# Altium integrated library TI_Logic_Flip-Flop,Latch,Register.IntLib: 2598 symbols (part 72 of 122)
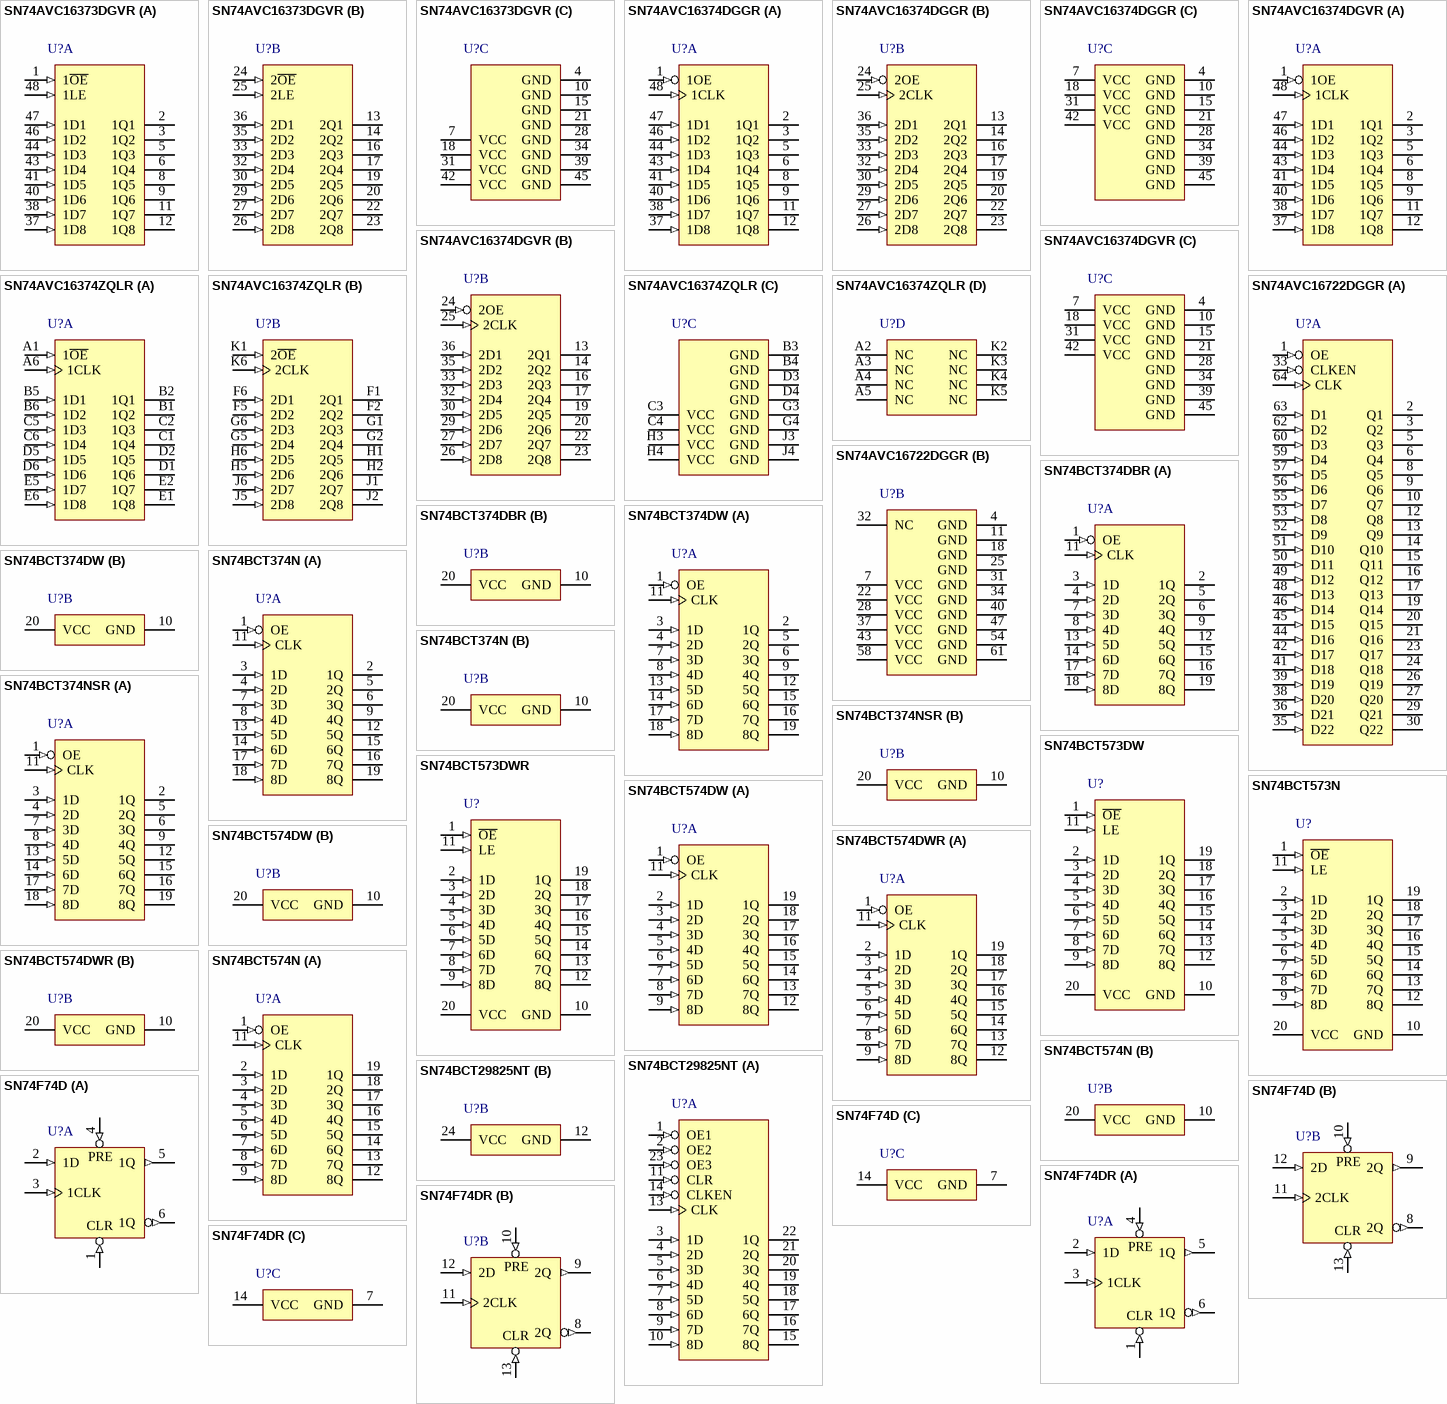
[diagram p210: symbols SN74AVC16373DGVR to SN74F74DR]

## SN74AVC16373DGVR
designator U?
16-Bit Transparent D-Type Latch With 3-State Outputs, DGV0048A, LARGE T&R; Generic Part Number: SN74AVC16373; Manufacturer: Texas Instruments; PartNumber: SN74AVC16373DGVR; VCC(Min)(V): 1.4; VCC(Max)(V): 3.6; Output Type: CMOS; Logic: True; Static Current: 0.04; Input Type: CMOS,TTL; Bits(#): 16; F @ Nom Voltage(Max)(Mhz): 200; Rating: Catalog; Technology Family: AVC; Voltage(Nom)(V): 1.2,1.5,1.8,2.5,3.3; Schmitt Trigger: No; Output Drive (IOL/IOH)(Max)(mA): 12/-12; Output Logic: Non-inverted; 3-State Output: Yes; tpd @ Nom Voltage(Max)(ns): 5.8,6.8,5.7,3.3,2.8; DatasheetVersion: SCES156H; PackageReference: DGV0048A; Supplier 1: Digi-Key; Supplier Part Number 1: 296-9792-2-ND; Supplier 2: Digi-Key; Supplier Part Number 2: 296-9792-1-ND; Supplier 3: Digi-Key; Supplier Part Number 3: 296-9792-6-ND; Supplier 4: Mouser; Supplier Part Number 4: 595-SN74AVC16373DGVR; ICC @ Nom Voltage(Max)(mA): 0.04; Operating Temperature Range(C): -40 to 85; Code_JEDEC: MO-153; ComponentLink1Description: Manufacturer URL; ComponentLink1URL: http://www.ti.com/; ComponentLink2Description: Datasheet; ComponentLink2URL: http://www.ti.com/lit/ds/symlink/sn74avc16373.pdf; ComponentLink3Description: Package Specification; ComponentLink3URL: http://www.ti.com/lit/ml/mpds006c/mpds006c.pdf
footprint DGV0048A_N (SOP, 48-Leads, Body 4.5x9.8mm, Pitch 0.4mm, IPC Medium Density)
footprint DGV0048A_M (SOP, 48-Leads, Body 4.5x9.8mm, Pitch 0.4mm, IPC Low Density)
footprint DGV0048A_L (SOP, 48-Leads, Body 4.5x9.8mm, Pitch 0.4mm, IPC High Density)
part A pins: 1 1~{OE} (in) "Output Enable 1", 2 1Q1 (hiz) "1Q1 Output", 3 1Q2 (hiz) "1Q2 Output", 5 1Q3 (hiz) "1Q3 Output", 6 1Q4 (hiz) "1Q4 Output", 8 1Q5 (hiz) "1Q5 Output", 9 1Q6 (hiz) "1Q6 Output", 11 1Q7 (hiz) "1Q7 Output", 12 1Q8 (hiz) "1Q8 Output", 37 1D8 (in) "1D8 Input", 38 1D7 (in) "1D7 Input", 40 1D6 (in) "1D6 Input", 41 1D5 (in) "1D5 Input", 43 1D4 (in) "1D4 Input", 44 1D3 (in) "1D3 Input", 46 1D2 (in) "1D2 Input", 47 1D1 (in) "1D1 Input", 48 1LE (in) "Latch Enable 1"
part B pins: 13 2Q1 (hiz) "2Q1 Output", 14 2Q2 (hiz) "2Q2 Output", 16 2Q3 (hiz) "2Q3 Output", 17 2Q4 (hiz) "2Q4 Output", 19 2Q5 (hiz) "Output", 20 2Q6 (hiz) "2Q6 Output", 22 2Q7 (hiz) "2Q7 Output", 23 2Q8 (hiz) "2Q8 Output", 24 2~{OE} (in) "Output Enable 2", 25 2LE (in) "2LE Input", 26 2D8 (in) "2D8 Input", 27 2D7 (in) "2D7 Input", 29 2D6 (in) "2D6 Input", 30 2D5 (in) "2D5 Input", 32 2D4 (in) "2D4 Input", 33 2D3 (in) "2D3 Input", 35 2D2 (in) "2D2 Input", 36 2D1 (in) "2D1 Input"
part C pins: 4 GND (power) "Ground Pin", 7 VCC (power) "Power Pin", 10 GND (power) "Ground Pin", 15 GND (power) "Ground Pin", 18 VCC (power) "Power Pin", 21 GND (power) "Ground Pin", 28 GND (power) "Ground Pin", 31 VCC (power) "Power Pin", 34 GND (power) "Ground Pin", 39 GND (power) "Ground Pin", 42 VCC (power) "Power Pin", 45 GND (power) "Ground Pin"

## SN74AVC16374DGGR
designator U?
16-Bit Edge-Triggered D-Type Flip-Flop With 3-State Outputs, DGG0048A, LARGE T&R; Generic Part Number: SN74AVC16374; Manufacturer: Texas Instruments; PartNumber: SN74AVC16374DGGR; VCC(Min)(V): 1.2; VCC(Max)(V): 3.6; Output Type: CMOS; ICC @ Nom Voltage(Max)(mA): 0.04; Input Type: TTL,CMOS; Bits(#): 16; F @ Nom Voltage(Max)(Mhz): 200; Rating: Catalog; Technology Family: AVC; Voltage(Nom)(V): 1.2,1.5,1.8,2.5,3.3; Schmitt Trigger: No; Output Drive (IOL/IOH)(Max)(mA): 12/-12; Output Logic: Non-inverted; 3-State Output: Yes; tpd @ Nom Voltage(Max)(ns): 7.3,8.4,6.7,4.1,3.3; DatasheetVersion: SCES158H; PackageReference: DGG0048A; Supplier 1: Digi-Key; Supplier Part Number 1: 296-9794-2-ND; Supplier 2: Digi-Key; Supplier Part Number 2: 296-9794-1-ND; Supplier 3: Digi-Key; Supplier Part Number 3: 296-9794-6-ND; Supplier 4: Newark; Supplier Part Number 4: 76C2766; Supplier 5: Mouser; Supplier Part Number 5: 595-SN74AVC16374DGGR; Operating Temperature Range(C): -40 to 85; Code_JEDEC: MO-153; ComponentLink1Description: Manufacturer URL; ComponentLink1URL: http://www.ti.com/; ComponentLink2Description: Datasheet; ComponentLink2URL: http://www.ti.com/lit/ds/symlink/sn74avc16374.pdf; ComponentLink3Description: Package Specification; ComponentLink3URL: http://www.ti.com/lit/ml/mtss003d/mtss003d.pdf
footprint DGG0048A_N (TSSOP, 48-Leads, Body 12.6x6.2mm, Pitch 0.5mm, IPC Medium Density)
footprint DGG0048A_M (TSSOP, 48-Leads, Body 12.6x6.2mm, Pitch 0.5mm, IPC Low Density)
footprint DGG0048A_L (TSSOP, 48-Leads, Body 12.6x6.2mm, Pitch 0.5mm, IPC High Density)
part A pins: 1 1OE (in), 2 1Q1 (hiz), 3 1Q2 (hiz), 5 1Q3 (hiz), 6 1Q4 (hiz), 8 1Q5 (hiz), 9 1Q6 (hiz), 11 1Q7 (hiz), 12 1Q8 (hiz), 37 1D8 (in), 38 1D7 (in), 40 1D6 (in), 41 1D5 (in), 43 1D4 (in), 44 1D3 (in), 46 1D2 (in), 47 1D1 (in), 48 1CLK (in)
part B pins: 13 2Q1 (hiz), 14 2Q2 (hiz), 16 2Q3 (hiz), 17 2Q4 (hiz), 19 2Q5 (hiz), 20 2Q6 (hiz), 22 2Q7 (hiz), 23 2Q8 (hiz), 24 2OE (in), 25 2CLK (in), 26 2D8 (in), 27 2D7 (in), 29 2D6 (in), 30 2D5 (in), 32 2D4 (in), 33 2D3 (in), 35 2D2 (in), 36 2D1 (in)
part C pins: 4 GND (power), 7 VCC (power), 10 GND (power), 15 GND (power), 18 VCC (power), 21 GND (power), 28 GND (power), 31 VCC (power), 34 GND (power), 39 GND (power), 42 VCC (power), 45 GND (power)

## SN74AVC16374DGVR
designator U?
16-Bit Edge-Triggered D-Type Flip-Flop With 3-State Outputs, DGV0048A, LARGE T&R; Generic Part Number: SN74AVC16374; Manufacturer: Texas Instruments; PartNumber: SN74AVC16374DGVR; VCC(Min)(V): 1.2; VCC(Max)(V): 3.6; Output Type: CMOS; ICC @ Nom Voltage(Max)(mA): 0.04; Input Type: TTL,CMOS; Bits(#): 16; F @ Nom Voltage(Max)(Mhz): 200; Rating: Catalog; Technology Family: AVC; Voltage(Nom)(V): 1.2,1.5,1.8,2.5,3.3; Schmitt Trigger: No; Output Drive (IOL/IOH)(Max)(mA): 12/-12; Output Logic: Non-inverted; 3-State Output: Yes; tpd @ Nom Voltage(Max)(ns): 7.3,8.4,6.7,4.1,3.3; DatasheetVersion: SCES158H; PackageReference: DGV0048A; Supplier 1: Digi-Key; Supplier Part Number 1: 296-9795-2-ND; Supplier 2: Digi-Key; Supplier Part Number 2: 296-9795-1-ND; Supplier 3: Digi-Key; Supplier Part Number 3: 296-9795-6-ND; Supplier 4: Newark; Supplier Part Number 4: 76C2767; Supplier 5: Mouser; Supplier Part Number 5: 595-SN74AVC16374DGVR; Operating Temperature Range(C): -40 to 85; Code_JEDEC: MO-153; ComponentLink1Description: Manufacturer URL; ComponentLink1URL: http://www.ti.com/; ComponentLink2Description: Datasheet; ComponentLink2URL: http://www.ti.com/lit/ds/symlink/sn74avc16374.pdf; ComponentLink3Description: Package Specification; ComponentLink3URL: http://www.ti.com/lit/ml/mpds006c/mpds006c.pdf
footprint DGV0048A_N (SOP, 48-Leads, Body 4.5x9.8mm, Pitch 0.4mm, IPC Medium Density)
footprint DGV0048A_M (SOP, 48-Leads, Body 4.5x9.8mm, Pitch 0.4mm, IPC Low Density)
footprint DGV0048A_L (SOP, 48-Leads, Body 4.5x9.8mm, Pitch 0.4mm, IPC High Density)
part A pins: 1 1OE (in), 2 1Q1 (hiz), 3 1Q2 (hiz), 5 1Q3 (hiz), 6 1Q4 (hiz), 8 1Q5 (hiz), 9 1Q6 (hiz), 11 1Q7 (hiz), 12 1Q8 (hiz), 37 1D8 (in), 38 1D7 (in), 40 1D6 (in), 41 1D5 (in), 43 1D4 (in), 44 1D3 (in), 46 1D2 (in), 47 1D1 (in), 48 1CLK (in)
part B pins: 13 2Q1 (hiz), 14 2Q2 (hiz), 16 2Q3 (hiz), 17 2Q4 (hiz), 19 2Q5 (hiz), 20 2Q6 (hiz), 22 2Q7 (hiz), 23 2Q8 (hiz), 24 2OE (in), 25 2CLK (in), 26 2D8 (in), 27 2D7 (in), 29 2D6 (in), 30 2D5 (in), 32 2D4 (in), 33 2D3 (in), 35 2D2 (in), 36 2D1 (in)
part C pins: 4 GND (power), 7 VCC (power), 10 GND (power), 15 GND (power), 18 VCC (power), 21 GND (power), 28 GND (power), 31 VCC (power), 34 GND (power), 39 GND (power), 42 VCC (power), 45 GND (power)

## SN74AVC16374ZQLR
designator U?
16-Bit Edge-Triggered D-Type Flip-Flop With 3-State Outputs, ZQL0056A, LARGE T&R; Generic Part Number: SN74AVC16374; Manufacturer: Texas Instruments; PartNumber: SN74AVC16374ZQLR; VCC(Min)(V): 1.2; VCC(Max)(V): 3.6; Output Type: CMOS; ICC @ Nom Voltage(Max)(mA): 0.04; Input Type: TTL,CMOS; Bits(#): 16; F @ Nom Voltage(Max)(Mhz): 200; Rating: Catalog; Technology Family: AVC; Voltage(Nom)(V): 1.2,1.5,1.8,2.5,3.3; Schmitt Trigger: No; Output Drive (IOL/IOH)(Max)(mA): 12/-12; Output Logic: Non-inverted; 3-State Output: Yes; tpd @ Nom Voltage(Max)(ns): 7.3,8.4,6.7,4.1,3.3; DatasheetVersion: SCES158H; PackageReference: ZQL0056A; Supplier 1: Digi-Key; Supplier Part Number 1: 296-23246-2-ND; Supplier 2: Digi-Key; Supplier Part Number 2: 296-23246-1-ND; Supplier 3: Digi-Key; Supplier Part Number 3: 296-23246-6-ND; Supplier 4: Mouser; Supplier Part Number 4: 595-SN74AVC16374ZQLR; Operating Temperature Range(C): -40 to 85; Code_JEDEC: MO-285; ComponentLink1Description: Manufacturer URL; ComponentLink1URL: http://www.ti.com/; ComponentLink2Description: Datasheet; ComponentLink2URL: http://www.ti.com/lit/ds/symlink/sn74avc16374.pdf; ComponentLink3Description: Package Specification; ComponentLink3URL: http://www.ti.com/lit/ml/mpbg302g/mpbg302g.pdf
footprint ZQL0056A (BGA, 56-Balls, Body 7x4.5mm, Pitch 0.65mm)
part A pins: A1 1~{OE} (in), A6 1CLK (in), B1 1Q2 (hiz), B2 1Q1 (hiz), B5 1D1 (in), B6 1D2 (in), C1 1Q4 (hiz), C2 1Q3 (hiz), C5 1D3 (in), C6 1D4 (in), D1 1Q6 (hiz), D2 1Q5 (hiz), D5 1D5 (in), D6 1D6 (in), E1 1Q8 (hiz), E2 1Q7 (hiz), E5 1D7 (in), E6 1D8 (in)
part B pins: F1 2Q1 (hiz), F2 2Q2 (hiz), F5 2D2 (in), F6 2D1 (in), G1 2Q3 (hiz), G2 2Q4 (hiz), G5 2D4 (in), G6 2D3 (in), H1 2Q5 (hiz), H2 2Q6 (hiz), H5 2D6 (in), H6 2D5 (in), J1 2Q7 (hiz), J2 2Q8 (hiz), J5 2D8 (in), J6 2D7 (in), K1 2~{OE} (in), K6 2CLK (in)
part C pins: B3 GND (power), B4 GND (power), C3 VCC (power), C4 VCC (power), D3 GND (power), D4 GND (power), G3 GND (power), G4 GND (power), H3 VCC (power), H4 VCC (power), J3 GND (power), J4 GND (power)
part D pins: A2 NC, A3 NC, A4 NC, A5 NC, K2 NC, K3 NC, K4 NC, K5 NC

## SN74AVC16722DGGR
designator U?
22-Bit Flip-Flop With 3-State Outputs, DGG0064A, LARGE T&R; Generic Part Number: SN74AVC16722; Manufacturer: Texas Instruments; PartNumber: SN74AVC16722DGGR; VCC(Min)(V): 1.2; VCC(Max)(V): 3.6; Output Type: CMOS; ICC @ Nom Voltage(Max)(mA): 0.04; Input Type: TTL,CMOS; Bits(#): 22; F @ Nom Voltage(Max)(Mhz): 200; Rating: Catalog; Technology Family: AVC; Voltage(Nom)(V): 1.2,1.5,1.8,2.5,3.3; Schmitt Trigger: No; Output Drive (IOL/IOH)(Max)(mA): 12/-12; Output Logic: Non-inverted; 3-State Output: Yes; tpd @ Nom Voltage(Max)(ns): 7.7,6.3,5.4,3.3,2.6; DatasheetVersion: SCES166H; PackageReference: DGG0064A; Supplier 1: Digi-Key; Supplier Part Number 1: 296-9799-2-ND; Supplier 2: Digi-Key; Supplier Part Number 2: 296-9799-1-ND; Supplier 3: Digi-Key; Supplier Part Number 3: 296-9799-6-ND; Supplier 4: Mouser; Supplier Part Number 4: 595-SN74AVC16722DGGR; Operating Temperature Range(C): -40 to 85; Code_JEDEC: MO-153; ComponentLink1Description: Manufacturer URL; ComponentLink1URL: http://www.ti.com/; ComponentLink2Description: Datasheet; ComponentLink2URL: http://www.ti.com/lit/ds/symlink/sn74avc16722.pdf; ComponentLink3Description: Package Specification; ComponentLink3URL: http://www.ti.com/lit/ml/mtss003d/mtss003d.pdf
footprint DGG0064A_N (TSSOP, 64-Leads, Body 17.1x6.2mm, Pitch 0.5mm, IPC Medium Density)
footprint DGG0064A_M (TSSOP, 64-Leads, Body 17.1x6.2mm, Pitch 0.5mm, IPC Low Density)
footprint DGG0064A_L (TSSOP, 64-Leads, Body 17.1x6.2mm, Pitch 0.5mm, IPC High Density)
part A pins: 1 OE (in), 2 Q1 (hiz), 3 Q2 (hiz), 5 Q3 (hiz), 6 Q4 (hiz), 8 Q5 (hiz), 9 Q6 (hiz), 10 Q7 (hiz), 12 Q8 (hiz), 13 Q9 (hiz), 14 Q10 (hiz), 15 Q11 (hiz), 16 Q12 (hiz), 17 Q13 (hiz), 19 Q14 (hiz), 20 Q15 (hiz), 21 Q16 (hiz), 23 Q17 (hiz), 24 Q18 (hiz), 26 Q19 (hiz), 27 Q20 (hiz), 29 Q21 (hiz), 30 Q22 (hiz), 33 CLKEN (in), 35 D22 (in), 36 D21 (in), 38 D20 (in), 39 D19 (in), 41 D18 (in), 42 D17 (in), 44 D16 (in), 45 D15 (in), 46 D14 (in), 48 D13 (in), 49 D12 (in), 50 D11 (in), 51 D10 (in), 52 D9 (in), 53 D8 (in), 55 D7 (in), 56 D6 (in), 57 D5 (in), 59 D4 (in), 60 D3 (in), 62 D2 (in), 63 D1 (in), 64 CLK (in)
part B pins: 4 GND (power), 7 VCC (power), 11 GND (power), 18 GND (power), 22 VCC (power), 25 GND (power), 28 VCC (power), 31 GND (power), 32 NC, 34 GND (power), 37 VCC (power), 40 GND (power), 43 VCC (power), 47 GND (power), 54 GND (power), 58 VCC (power), 61 GND (power)

## SN74BCT374DBR
designator U?
Octal D-Type Edge-Triggered Flip-Flops, DB0020A, LARGE T&R; Generic Part Number: SN74BCT374; Manufacturer: Texas Instruments; PartNumber: SN74BCT374DBR; VCC(Min)(V): 4.5; VCC(Max)(V): 5.5; Output Type: TTL; ICC @ Nom Voltage(Max)(mA): 60; Bits(#): 8; F @ Nom Voltage(Max)(Mhz): 70; Rating: Catalog; Technology Family: BCT; Voltage(Nom)(V): 5; Schmitt Trigger: No; Output Drive (IOL/IOH)(Max)(mA): 64/-15; Output Logic: Non-inverted; 3-State Output: Yes; tpd @ Nom Voltage(Max)(ns): 10.6; DatasheetVersion: SCBS019C; PackageReference: DB0020A; Supplier 1: Digi-Key; Supplier Part Number 1: SN74BCT374DBR-ND; Supplier 2: Mouser; Supplier Part Number 2: 595-SN74BCT374DBR; Input Type: TTL; Operating Temperature Range(C): 0 to 70; Code_JEDEC: MO-150; ComponentLink1Description: Manufacturer URL; ComponentLink1URL: http://www.ti.com/; ComponentLink2Description: Datasheet; ComponentLink2URL: http://www.ti.com/lit/ds/symlink/sn74bct374.pdf; ComponentLink3Description: Package Specification; ComponentLink3URL: http://www.ti.com/lit/ml/mpds508/mpds508.pdf
footprint DB0020A_N (SOP, 20-Leads, Body 5.6x7.5mm, Pitch 0.65mm, IPC Medium Density)
footprint DB0020A_M (SOP, 20-Leads, Body 5.6x7.5mm, Pitch 0.65mm, IPC Low Density)
footprint DB0020A_L (SOP, 20-Leads, Body 5.6x7.5mm, Pitch 0.65mm, IPC High Density)
part A pins: 1 OE (in), 2 1Q (hiz), 3 1D (in), 4 2D (in), 5 2Q (hiz), 6 3Q (hiz), 7 3D (in), 8 4D (in), 9 4Q (hiz), 11 CLK (in), 12 5Q (hiz), 13 5D (in), 14 6D (in), 15 6Q (hiz), 16 7Q (hiz), 17 7D (in), 18 8D (in), 19 8Q (hiz)
part B pins: 10 GND (power), 20 VCC (power)

## SN74BCT374DW
designator U?
Octal D-Type Edge-Triggered Flip-Flops, DW0020A, TUBE; Generic Part Number: SN74BCT374; Manufacturer: Texas Instruments; PartNumber: SN74BCT374DW; VCC(Min)(V): 4.5; VCC(Max)(V): 5.5; Output Type: TTL; ICC @ Nom Voltage(Max)(mA): 60; Bits(#): 8; F @ Nom Voltage(Max)(Mhz): 70; Rating: Catalog; Technology Family: BCT; Voltage(Nom)(V): 5; Schmitt Trigger: No; Output Drive (IOL/IOH)(Max)(mA): 64/-15; Output Logic: Non-inverted; 3-State Output: Yes; tpd @ Nom Voltage(Max)(ns): 10.6; DatasheetVersion: SCBS019C; PackageReference: DW0020A; Supplier 1: Digi-Key; Supplier Part Number 1: SN74BCT374DW-ND; Supplier 2: Farnell; Supplier Part Number 2: 1749836; Supplier 3: Newark; Supplier Part Number 3: 76C2841; Supplier 4: Mouser; Supplier Part Number 4: 595-SN74BCT374DW; Input Type: TTL; Operating Temperature Range(C): 0 to 70; Code_JEDEC: MS-013; ComponentLink1Description: Manufacturer URL; ComponentLink1URL: http://www.ti.com/; ComponentLink2Description: Datasheet; ComponentLink2URL: http://www.ti.com/lit/ds/symlink/sn74bct374.pdf; ComponentLink3Description: Package Specification; ComponentLink3URL: http://www.ti.com/lit/ml/mpds173a/mpds173a.pdf
footprint DW0020A_N (SOIC, 20-Leads, Body 13x7.6mm, Pitch 1.27mm, IPC Medium Density)
footprint DW0020A_M (SOIC, 20-Leads, Body 13x7.6mm, Pitch 1.27mm, IPC Low Density)
footprint DW0020A_L (SOIC, 20-Leads, Body 13x7.6mm, Pitch 1.27mm, IPC High Density)
part A pins: 1 OE (in), 2 1Q (hiz), 3 1D (in), 4 2D (in), 5 2Q (hiz), 6 3Q (hiz), 7 3D (in), 8 4D (in), 9 4Q (hiz), 11 CLK (in), 12 5Q (hiz), 13 5D (in), 14 6D (in), 15 6Q (hiz), 16 7Q (hiz), 17 7D (in), 18 8D (in), 19 8Q (hiz)
part B pins: 10 GND (power), 20 VCC (power)

## SN74BCT374N
designator U?
Octal D-Type Edge-Triggered Flip-Flops, N0020A, TUBE; Generic Part Number: SN74BCT374; Manufacturer: Texas Instruments; PartNumber: SN74BCT374N; VCC(Min)(V): 4.5; VCC(Max)(V): 5.5; Output Type: TTL; ICC @ Nom Voltage(Max)(mA): 60; Bits(#): 8; F @ Nom Voltage(Max)(Mhz): 70; Rating: Catalog; Technology Family: BCT; Voltage(Nom)(V): 5; Schmitt Trigger: No; Output Drive (IOL/IOH)(Max)(mA): 64/-15; Output Logic: Non-inverted; 3-State Output: Yes; tpd @ Nom Voltage(Max)(ns): 10.6; DatasheetVersion: SCBS019C; PackageReference: N0020A; Supplier 1: Digi-Key; Supplier Part Number 1: 296-33839-5-ND; Supplier 2: Mouser; Supplier Part Number 2: 595-SN74BCT374N; Input Type: TTL; Operating Temperature Range(C): 0 to 70; Code_JEDEC: MS-001; ComponentLink1Description: Manufacturer URL; ComponentLink1URL: http://www.ti.com/; ComponentLink2Description: Datasheet; ComponentLink2URL: http://www.ti.com/lit/ds/symlink/sn74bct374.pdf; ComponentLink3Description: Package Specification; ComponentLink3URL: http://www.ti.com/lit/ml/mpdi002c/mpdi002c.pdf
footprint N0020A (DIP, 20-Leads, Body 26.9x6.6mm, Pitch 2.54mm)
part A pins: 1 OE (in), 2 1Q (hiz), 3 1D (in), 4 2D (in), 5 2Q (hiz), 6 3Q (hiz), 7 3D (in), 8 4D (in), 9 4Q (hiz), 11 CLK (in), 12 5Q (hiz), 13 5D (in), 14 6D (in), 15 6Q (hiz), 16 7Q (hiz), 17 7D (in), 18 8D (in), 19 8Q (hiz)
part B pins: 10 GND (power), 20 VCC (power)

## SN74BCT374NSR
designator U?
Octal D-Type Edge-Triggered Flip-Flops, NS0020A, LARGE T&R; Generic Part Number: SN74BCT374; Manufacturer: Texas Instruments; PartNumber: SN74BCT374NSR; VCC(Min)(V): 4.5; VCC(Max)(V): 5.5; Output Type: TTL; ICC @ Nom Voltage(Max)(mA): 60; Bits(#): 8; F @ Nom Voltage(Max)(Mhz): 70; Rating: Catalog; Technology Family: BCT; Voltage(Nom)(V): 5; Schmitt Trigger: No; Output Drive (IOL/IOH)(Max)(mA): 64/-15; Output Logic: Non-inverted; 3-State Output: Yes; tpd @ Nom Voltage(Max)(ns): 10.6; DatasheetVersion: SCBS019C; PackageReference: NS0020A; Supplier 1: Digi-Key; Supplier Part Number 1: 296-13177-2-ND; Supplier 2: Digi-Key; Supplier Part Number 2: 296-13177-1-ND; Supplier 3: Digi-Key; Supplier Part Number 3: 296-13177-6-ND; Supplier 4: Mouser; Supplier Part Number 4: 595-SN74BCT374NSR; Input Type: TTL; Operating Temperature Range(C): 0 to 70; ComponentLink1Description: Manufacturer URL; ComponentLink1URL: http://www.ti.com/; ComponentLink2Description: Datasheet; ComponentLink2URL: http://www.ti.com/lit/ds/symlink/sn74bct374.pdf; ComponentLink3Description: Package Specification; ComponentLink3URL: http://www.ti.com/lit/ml/msop002a/msop002a.pdf
footprint NS0020A_N (SOIC,20-Leads,Body 12.9x5.6mm,Pitch 1.27mm,IPC Medium Density)
footprint NS0020A_M (SOIC,20-Leads,Body 12.9x5.6mm,Pitch 1.27mm,IPC Low Density)
footprint NS0020A_L (SOIC,20-Leads,Body 12.9x5.6mm,Pitch 1.27mm,IPC High Density)
part A pins: 1 OE (in), 2 1Q (hiz), 3 1D (in), 4 2D (in), 5 2Q (hiz), 6 3Q (hiz), 7 3D (in), 8 4D (in), 9 4Q (hiz), 11 CLK (in), 12 5Q (hiz), 13 5D (in), 14 6D (in), 15 6Q (hiz), 16 7Q (hiz), 17 7D (in), 18 8D (in), 19 8Q (hiz)
part B pins: 10 GND (power), 20 VCC (power)

## SN74BCT573DW
designator U?
Octal D-Type Transparent Latches, DW0020A, TUBE; Generic Part Number: SN74BCT573; Manufacturer: Texas Instruments; PartNumber: SN74BCT573DW; VCC(Min)(V): 4.5; VCC(Max)(V): 5.5; Output Type: TTL; Logic: True; Static Current: 35; ICC @ Nom Voltage(Max)(mA): 62; Bits(#): 8; F @ Nom Voltage(Max)(Mhz): 70; Rating: Catalog; Technology Family: BCT; Voltage(Nom)(V): 5; Schmitt Trigger: No; Output Drive (IOL/IOH)(Max)(mA): 64/-15; Output Logic: Non-inverted; 3-State Output: Yes; tpd @ Nom Voltage(Max)(ns): 9.6; DatasheetVersion: SCBS071B; PackageReference: DW0020A; Supplier 1: Digi-Key; Supplier Part Number 1: SN74BCT573DW-ND; Supplier 2: Farnell; Supplier Part Number 2: 1752908; Supplier 3: Mouser; Supplier Part Number 3: 595-SN74BCT573DW; Input Type: TTL; Operating Temperature Range(C): 0 to 70; Code_JEDEC: MS-013; ComponentLink1Description: Manufacturer URL; ComponentLink1URL: http://www.ti.com/; ComponentLink2Description: Datasheet; ComponentLink2URL: http://www.ti.com/lit/ds/symlink/sn74bct573.pdf; ComponentLink3Description: Package Specification; ComponentLink3URL: http://www.ti.com/lit/ml/mpds173a/mpds173a.pdf
footprint DW0020A_N (SOIC, 20-Leads, Body 13x7.6mm, Pitch 1.27mm, IPC Medium Density)
footprint DW0020A_M (SOIC, 20-Leads, Body 13x7.6mm, Pitch 1.27mm, IPC Low Density)
footprint DW0020A_L (SOIC, 20-Leads, Body 13x7.6mm, Pitch 1.27mm, IPC High Density)
pins: 1 ~{OE} (in), 2 1D (in), 3 2D (in), 4 3D (in), 5 4D (in), 6 5D (in), 7 6D (in), 8 7D (in), 9 8D (in), 10 GND (power), 11 LE (in), 12 8Q (hiz), 13 7Q (hiz), 14 6Q (hiz), 15 5Q (hiz), 16 4Q (hiz), 17 3Q (hiz), 18 2Q (hiz), 19 1Q (hiz), 20 VCC (power)

## SN74BCT573DWR
designator U?
Octal D-Type Transparent Latches, DW0020A, LARGE T&R; Generic Part Number: SN74BCT573; Manufacturer: Texas Instruments; PartNumber: SN74BCT573DWR; VCC(Min)(V): 4.5; VCC(Max)(V): 5.5; Output Type: TTL; Logic: True; Static Current: 35; ICC @ Nom Voltage(Max)(mA): 62; Bits(#): 8; F @ Nom Voltage(Max)(Mhz): 70; Rating: Catalog; Technology Family: BCT; Voltage(Nom)(V): 5; Schmitt Trigger: No; Output Drive (IOL/IOH)(Max)(mA): 64/-15; Output Logic: Non-inverted; 3-State Output: Yes; tpd @ Nom Voltage(Max)(ns): 9.6; DatasheetVersion: SCBS071B; PackageReference: DW0020A; Supplier 1: Digi-Key; Supplier Part Number 1: SN74BCT573DWR-ND; Supplier 2: Mouser; Supplier Part Number 2: 595-SN74BCT573DWR; Input Type: TTL; Operating Temperature Range(C): 0 to 70; Code_JEDEC: MS-013; ComponentLink1Description: Manufacturer URL; ComponentLink1URL: http://www.ti.com/; ComponentLink2Description: Datasheet; ComponentLink2URL: http://www.ti.com/lit/ds/symlink/sn74bct573.pdf; ComponentLink3Description: Package Specification; ComponentLink3URL: http://www.ti.com/lit/ml/mpds173a/mpds173a.pdf
footprint DW0020A_N (SOIC, 20-Leads, Body 13x7.6mm, Pitch 1.27mm, IPC Medium Density)
footprint DW0020A_M (SOIC, 20-Leads, Body 13x7.6mm, Pitch 1.27mm, IPC Low Density)
footprint DW0020A_L (SOIC, 20-Leads, Body 13x7.6mm, Pitch 1.27mm, IPC High Density)
pins: 1 ~{OE} (in), 2 1D (in), 3 2D (in), 4 3D (in), 5 4D (in), 6 5D (in), 7 6D (in), 8 7D (in), 9 8D (in), 10 GND (power), 11 LE (in), 12 8Q (hiz), 13 7Q (hiz), 14 6Q (hiz), 15 5Q (hiz), 16 4Q (hiz), 17 3Q (hiz), 18 2Q (hiz), 19 1Q (hiz), 20 VCC (power)

## SN74BCT573N
designator U?
Octal D-Type Transparent Latches, N0020A, TUBE; Generic Part Number: SN74BCT573; Manufacturer: Texas Instruments; PartNumber: SN74BCT573N; VCC(Min)(V): 4.5; VCC(Max)(V): 5.5; Output Type: TTL; Logic: True; Static Current: 35; ICC @ Nom Voltage(Max)(mA): 62; Bits(#): 8; F @ Nom Voltage(Max)(Mhz): 70; Rating: Catalog; Technology Family: BCT; Voltage(Nom)(V): 5; Schmitt Trigger: No; Output Drive (IOL/IOH)(Max)(mA): 64/-15; Output Logic: Non-inverted; 3-State Output: Yes; tpd @ Nom Voltage(Max)(ns): 9.6; DatasheetVersion: SCBS071B; PackageReference: N0020A; Supplier 1: Digi-Key; Supplier Part Number 1: SN74BCT573N-ND; Supplier 2: Farnell; Supplier Part Number 2: 1740981; Supplier 3: Mouser; Supplier Part Number 3: 595-SN74BCT573N; Input Type: TTL; Operating Temperature Range(C): 0 to 70; Code_JEDEC: MS-001; ComponentLink1Description: Manufacturer URL; ComponentLink1URL: http://www.ti.com/; ComponentLink2Description: Datasheet; ComponentLink2URL: http://www.ti.com/lit/ds/symlink/sn74bct573.pdf; ComponentLink3Description: Package Specification; ComponentLink3URL: http://www.ti.com/lit/ml/mpdi002c/mpdi002c.pdf
footprint N0020A (DIP, 20-Leads, Body 26.9x6.6mm, Pitch 2.54mm)
pins: 1 ~{OE} (in), 2 1D (in), 3 2D (in), 4 3D (in), 5 4D (in), 6 5D (in), 7 6D (in), 8 7D (in), 9 8D (in), 10 GND (power), 11 LE (in), 12 8Q (hiz), 13 7Q (hiz), 14 6Q (hiz), 15 5Q (hiz), 16 4Q (hiz), 17 3Q (hiz), 18 2Q (hiz), 19 1Q (hiz), 20 VCC (power)

## SN74BCT574DW
designator U?
Octal D-Type Edge-Triggered Flip-Flops, DW0020A, TUBE; Generic Part Number: SN74BCT574; Manufacturer: Texas Instruments; PartNumber: SN74BCT574DW; VCC(Min)(V): 4.5; VCC(Max)(V): 5.5; Output Type: TTL; ICC @ Nom Voltage(Max)(mA): 62; Bits(#): 8; F @ Nom Voltage(Max)(Mhz): 70; Rating: Catalog; Technology Family: BCT; Voltage(Nom)(V): 5; Schmitt Trigger: No; Output Drive (IOL/IOH)(Max)(mA): 64/-15; Output Logic: Non-inverted; 3-State Output: Yes; tpd @ Nom Voltage(Max)(ns): 10; DatasheetVersion: SCBS074C; PackageReference: DW0020A; Supplier 1: Digi-Key; Supplier Part Number 1: SN74BCT574DW-ND; Supplier 2: Farnell; Supplier Part Number 2: 1749838; Supplier 3: Mouser; Supplier Part Number 3: 595-SN74BCT574DW; Input Type: TTL; Operating Temperature Range(C): 0 to 70; Code_JEDEC: MS-013; ComponentLink1Description: Manufacturer URL; ComponentLink1URL: http://www.ti.com/; ComponentLink2Description: Datasheet; ComponentLink2URL: http://www.ti.com/lit/ds/symlink/sn74bct574.pdf; ComponentLink3Description: Package Specification; ComponentLink3URL: http://www.ti.com/lit/ml/mpds173a/mpds173a.pdf
footprint DW0020A_N (SOIC, 20-Leads, Body 13x7.6mm, Pitch 1.27mm, IPC Medium Density)
footprint DW0020A_M (SOIC, 20-Leads, Body 13x7.6mm, Pitch 1.27mm, IPC Low Density)
footprint DW0020A_L (SOIC, 20-Leads, Body 13x7.6mm, Pitch 1.27mm, IPC High Density)
part A pins: 1 OE (in), 2 1D (in), 3 2D (in), 4 3D (in), 5 4D (in), 6 5D (in), 7 6D (in), 8 7D (in), 9 8D (in), 11 CLK (in), 12 8Q (hiz), 13 7Q (hiz), 14 6Q (hiz), 15 5Q (hiz), 16 4Q (hiz), 17 3Q (hiz), 18 2Q (hiz), 19 1Q (hiz)
part B pins: 10 GND (power), 20 VCC (power)

## SN74BCT574DWR
designator U?
Octal D-Type Edge-Triggered Flip-Flops, DW0020A, LARGE T&R; Generic Part Number: SN74BCT574; Manufacturer: Texas Instruments; PartNumber: SN74BCT574DWR; VCC(Min)(V): 4.5; VCC(Max)(V): 5.5; Output Type: TTL; ICC @ Nom Voltage(Max)(mA): 62; Bits(#): 8; F @ Nom Voltage(Max)(Mhz): 70; Rating: Catalog; Technology Family: BCT; Voltage(Nom)(V): 5; Schmitt Trigger: No; Output Drive (IOL/IOH)(Max)(mA): 64/-15; Output Logic: Non-inverted; 3-State Output: Yes; tpd @ Nom Voltage(Max)(ns): 10; DatasheetVersion: SCBS074C; PackageReference: DW0020A; Supplier 1: Digi-Key; Supplier Part Number 1: SN74BCT574DWR-ND; Supplier 2: Mouser; Supplier Part Number 2: 595-SN74BCT574DWR; Input Type: TTL; Operating Temperature Range(C): 0 to 70; Code_JEDEC: MS-013; ComponentLink1Description: Manufacturer URL; ComponentLink1URL: http://www.ti.com/; ComponentLink2Description: Datasheet; ComponentLink2URL: http://www.ti.com/lit/ds/symlink/sn74bct574.pdf; ComponentLink3Description: Package Specification; ComponentLink3URL: http://www.ti.com/lit/ml/mpds173a/mpds173a.pdf
footprint DW0020A_N (SOIC, 20-Leads, Body 13x7.6mm, Pitch 1.27mm, IPC Medium Density)
footprint DW0020A_M (SOIC, 20-Leads, Body 13x7.6mm, Pitch 1.27mm, IPC Low Density)
footprint DW0020A_L (SOIC, 20-Leads, Body 13x7.6mm, Pitch 1.27mm, IPC High Density)
part A pins: 1 OE (in), 2 1D (in), 3 2D (in), 4 3D (in), 5 4D (in), 6 5D (in), 7 6D (in), 8 7D (in), 9 8D (in), 11 CLK (in), 12 8Q (hiz), 13 7Q (hiz), 14 6Q (hiz), 15 5Q (hiz), 16 4Q (hiz), 17 3Q (hiz), 18 2Q (hiz), 19 1Q (hiz)
part B pins: 10 GND (power), 20 VCC (power)

## SN74BCT574N
designator U?
Octal D-Type Edge-Triggered Flip-Flops, N0020A, TUBE; Generic Part Number: SN74BCT574; Manufacturer: Texas Instruments; PartNumber: SN74BCT574N; VCC(Min)(V): 4.5; VCC(Max)(V): 5.5; Output Type: TTL; ICC @ Nom Voltage(Max)(mA): 62; Bits(#): 8; F @ Nom Voltage(Max)(Mhz): 70; Rating: Catalog; Technology Family: BCT; Voltage(Nom)(V): 5; Schmitt Trigger: No; Output Drive (IOL/IOH)(Max)(mA): 64/-15; Output Logic: Non-inverted; 3-State Output: Yes; tpd @ Nom Voltage(Max)(ns): 10; DatasheetVersion: SCBS074C; PackageReference: N0020A; Supplier 1: Digi-Key; Supplier Part Number 1: SN74BCT574N-ND; Supplier 2: Farnell; Supplier Part Number 2: 1749839; Supplier 3: Mouser; Supplier Part Number 3: 595-SN74BCT574N; Input Type: TTL; Operating Temperature Range(C): 0 to 70; Code_JEDEC: MS-001; ComponentLink1Description: Manufacturer URL; ComponentLink1URL: http://www.ti.com/; ComponentLink2Description: Datasheet; ComponentLink2URL: http://www.ti.com/lit/ds/symlink/sn74bct574.pdf; ComponentLink3Description: Package Specification; ComponentLink3URL: http://www.ti.com/lit/ml/mpdi002c/mpdi002c.pdf
footprint N0020A (DIP, 20-Leads, Body 26.9x6.6mm, Pitch 2.54mm)
part A pins: 1 OE (in), 2 1D (in), 3 2D (in), 4 3D (in), 5 4D (in), 6 5D (in), 7 6D (in), 8 7D (in), 9 8D (in), 11 CLK (in), 12 8Q (hiz), 13 7Q (hiz), 14 6Q (hiz), 15 5Q (hiz), 16 4Q (hiz), 17 3Q (hiz), 18 2Q (hiz), 19 1Q (hiz)
part B pins: 10 GND (power), 20 VCC (power)

## SN74BCT29825NT
designator U?
Octal Bus Interface Flip-Flops With 3-State Outputs, NT0024A, TUBE; Generic Part Number: SN74BCT29825; Manufacturer: Texas Instruments; PartNumber: SN74BCT29825NT; DatasheetVersion: SCBS075A; PackageReference: NT0024A; Supplier 1: Digi-Key; Supplier Part Number 1: SN74BCT29825NT-ND; Supplier 2: Mouser; Supplier Part Number 2: 595-SN74BCT29825NT; ComponentLink1Description: Manufacturer URL; ComponentLink1URL: http://www.ti.com/; ComponentLink2Description: Datasheet; ComponentLink2URL: http://www.ti.com/lit/ds/symlink/sn74bct29825.pdf; ComponentLink3Description: Package Specification; ComponentLink3URL: http://www.ti.com/lit/ml/mpdi004a/mpdi004a.pdf
footprint NT0024A (DIP, 24-Leads, Body 32.05x7.1mm, Pitch 2.54mm)
part A pins: 1 OE1 (in), 2 OE2 (in), 3 1D (in), 4 2D (in), 5 3D (in), 6 4D (in), 7 5D (in), 8 6D (in), 9 7D (in), 10 8D (in), 11 CLR (in), 13 CLK (in), 14 CLKEN (in), 15 8Q (hiz), 16 7Q (hiz), 17 6Q (hiz), 18 5Q (hiz), 19 4Q (hiz), 20 3Q (hiz), 21 2Q (hiz), 22 1Q (hiz), 23 OE3 (in)
part B pins: 12 GND (power), 24 VCC (power)

## SN74F74D
designator U?
Dual Positive-Edge-Triggered D-Type Flip-Flops With Clear And Preset, D0014A, TUBE; Generic Part Number: SN74F74; Manufacturer: Texas Instruments; PartNumber: SN74F74D; VCC(Min)(V): 4.5; VCC(Max)(V): 5.5; Output Type: TTL; Output: 3S; ICC @ Nom Voltage(Max)(mA): 16; Bits(#): 2; F @ Nom Voltage(Max)(Mhz): 70; Rating: Catalog; Technology Family: F; Voltage(Nom)(V): 5; Schmitt Trigger: No; Output Drive (IOL/IOH)(Max)(mA): 20/-1; Output Logic: Inverted,Non-inverted; tpd @ Nom Voltage(Max)(ns): 9.2; DatasheetVersion: SDFS046A; PackageReference: D0014A; Supplier 1: Digi-Key; Supplier Part Number 1: 296-1183-5-ND; Supplier 2: Farnell; Supplier Part Number 2: 1287495; Supplier 3: Newark; Supplier Part Number 3: 26M3271; Supplier 4: Mouser; Supplier Part Number 4: 595-SN74F74D; Input Type: TTL; Operating Temperature Range(C): 0 to 70; 3-State Output: No; Code_JEDEC: MS-012; ComponentLink1Description: Manufacturer URL; ComponentLink1URL: http://www.ti.com/; ComponentLink2Description: Datasheet; ComponentLink2URL: http://www.ti.com/lit/ds/symlink/sn74f74.pdf; ComponentLink3Description: Package Specification; ComponentLink3URL: http://www.ti.com/lit/ml/mpds177g/mpds177g.pdf
footprint D0014A_N (SOIC, 14-Leads, Body 8.75x4mm, Pitch 1.27mm, IPC Medium Density)
footprint D0014A_M (SOIC, 14-Leads, Body 8.75x4mm, Pitch 1.27mm, IPC Low Density)
footprint D0014A_L (SOIC, 14-Leads, Body 8.75x4mm, Pitch 1.27mm, IPC High Density)
part A pins: 1 1~{CLR} (in), 2 1D (in), 3 1CLK (in), 4 1~{PRE} (in), 5 1Q (out), 6 1Q (out)
part B pins: 8 2Q (out), 9 2Q (out), 10 2~{PRE} (in), 11 2CLK (in), 12 2D (in), 13 2~{CLR} (in)
part C pins: 7 GND (power), 14 VCC (power)
part A text: PRE; CLR
part B text: PRE; CLR

## SN74F74DR
designator U?
Dual Positive-Edge-Triggered D-Type Flip-Flops With Clear And Preset, D0014A, LARGE T&R; Generic Part Number: SN74F74; Manufacturer: Texas Instruments; PartNumber: SN74F74DR; VCC(Min)(V): 4.5; VCC(Max)(V): 5.5; Output Type: TTL; Output: 3S; ICC @ Nom Voltage(Max)(mA): 16; Bits(#): 2; F @ Nom Voltage(Max)(Mhz): 70; Rating: Catalog; Technology Family: F; Voltage(Nom)(V): 5; Schmitt Trigger: No; Output Drive (IOL/IOH)(Max)(mA): 20/-1; Output Logic: Inverted,Non-inverted; tpd @ Nom Voltage(Max)(ns): 9.2; DatasheetVersion: SDFS046A; PackageReference: D0014A; Supplier 1: Digi-Key; Supplier Part Number 1: 296-1183-2-ND; Supplier 2: Digi-Key; Supplier Part Number 2: 296-1183-1-ND; Supplier 3: Digi-Key; Supplier Part Number 3: 296-1183-6-ND; Supplier 4: Newark; Supplier Part Number 4: 76C3264; Supplier 5: Newark; Supplier Part Number 5: 08J4937; Supplier 6: Mouser; Supplier Part Number 6: 595-SN74F74DR; Input Type: TTL; Operating Temperature Range(C): 0 to 70; 3-State Output: No; Code_JEDEC: MS-012; ComponentLink1Description: Manufacturer URL; ComponentLink1URL: http://www.ti.com/; ComponentLink2Description: Datasheet; ComponentLink2URL: http://www.ti.com/lit/ds/symlink/sn74f74.pdf; ComponentLink3Description: Package Specification; ComponentLink3URL: http://www.ti.com/lit/ml/mpds177g/mpds177g.pdf
footprint D0014A_N (SOIC, 14-Leads, Body 8.75x4mm, Pitch 1.27mm, IPC Medium Density)
footprint D0014A_M (SOIC, 14-Leads, Body 8.75x4mm, Pitch 1.27mm, IPC Low Density)
footprint D0014A_L (SOIC, 14-Leads, Body 8.75x4mm, Pitch 1.27mm, IPC High Density)
part A pins: 1 1~{CLR} (in), 2 1D (in), 3 1CLK (in), 4 1~{PRE} (in), 5 1Q (out), 6 1Q (out)
part B pins: 8 2Q (out), 9 2Q (out), 10 2~{PRE} (in), 11 2CLK (in), 12 2D (in), 13 2~{CLR} (in)
part C pins: 7 GND (power), 14 VCC (power)
part A text: PRE; CLR
part B text: PRE; CLR

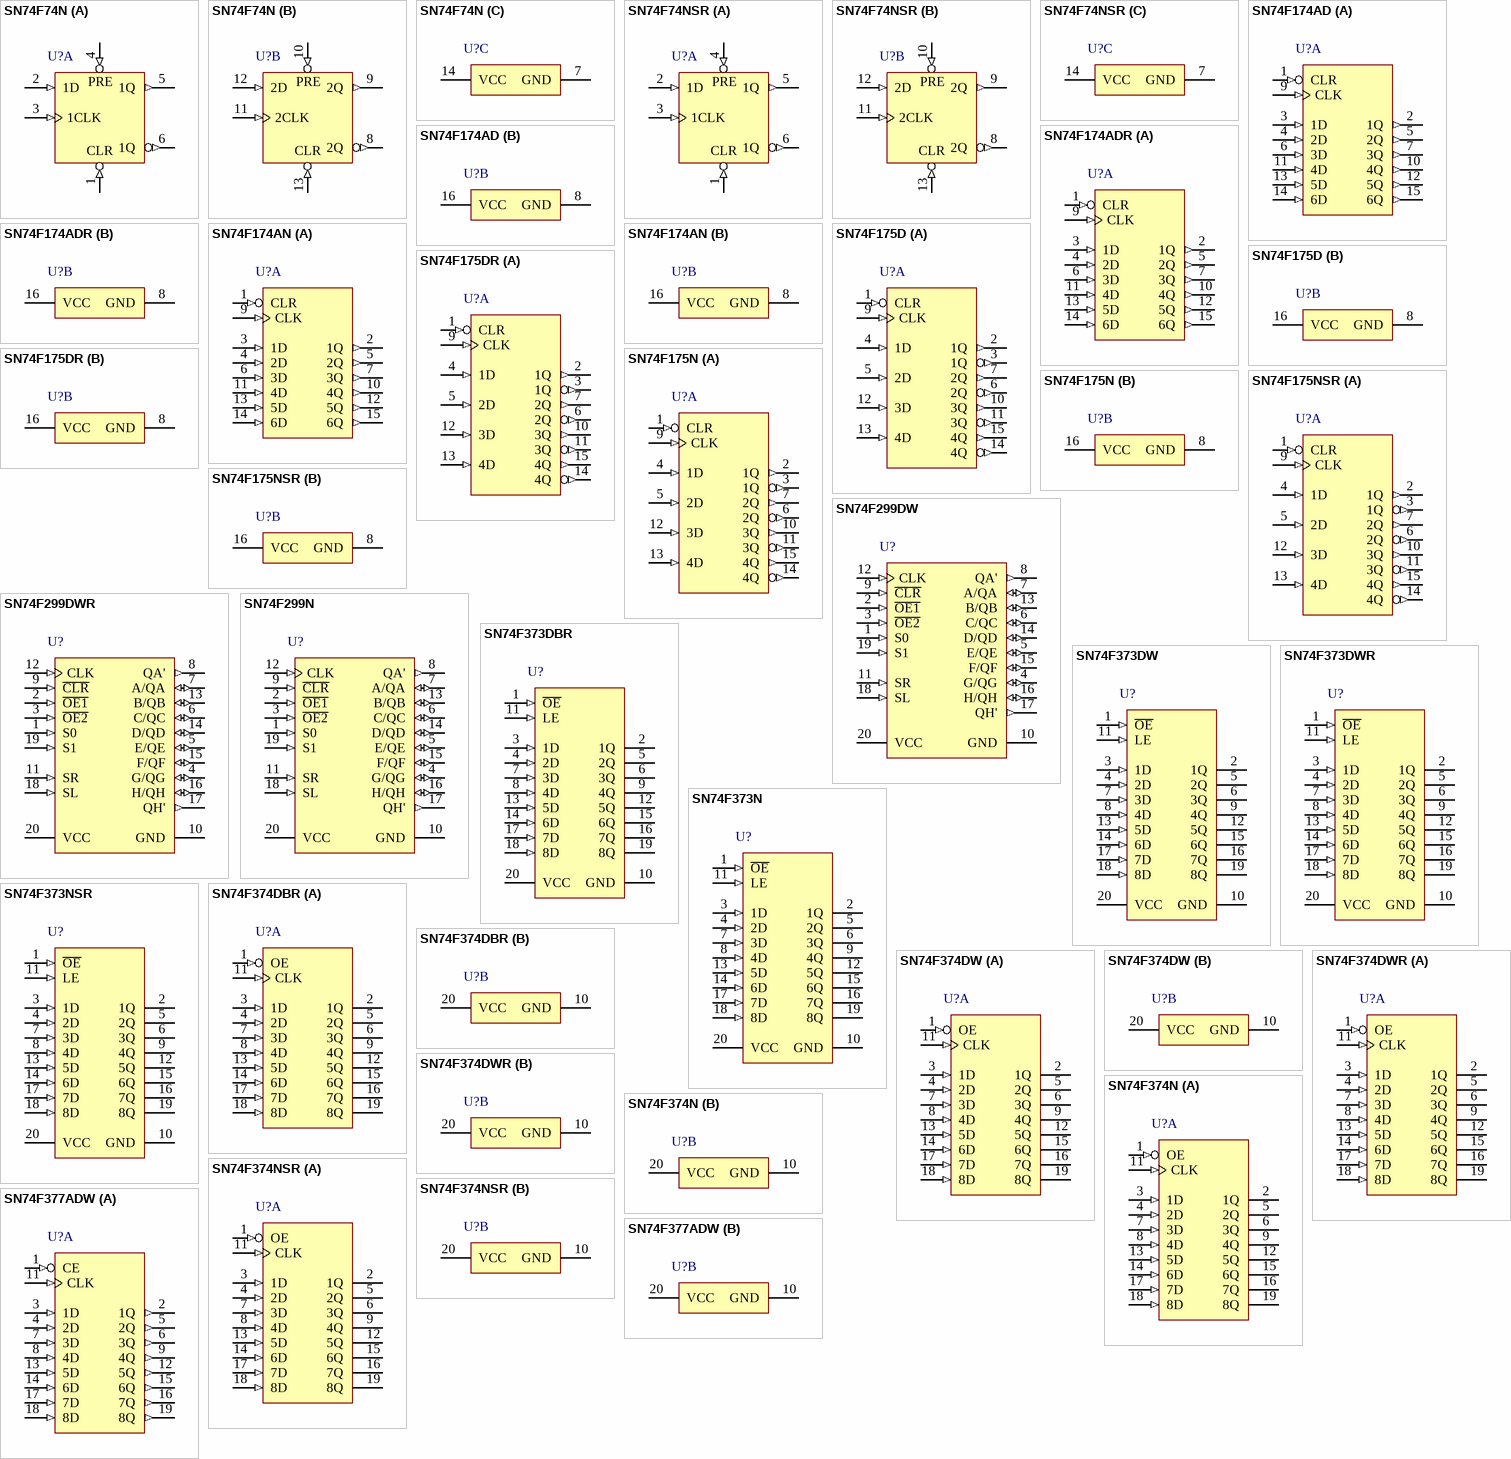
[diagram p85: symbols SN74F74N to SN74F377ADW]

## SN74F74N
designator U?
Dual Positive-Edge-Triggered D-Type Flip-Flops With Clear And Preset, N0014A, TUBE; Generic Part Number: SN74F74; Manufacturer: Texas Instruments; PartNumber: SN74F74N; VCC(Min)(V): 4.5; VCC(Max)(V): 5.5; Output Type: TTL; Output: 3S; ICC @ Nom Voltage(Max)(mA): 16; Bits(#): 2; F @ Nom Voltage(Max)(Mhz): 70; Rating: Catalog; Technology Family: F; Voltage(Nom)(V): 5; Schmitt Trigger: No; Output Drive (IOL/IOH)(Max)(mA): 20/-1; Output Logic: Inverted,Non-inverted; tpd @ Nom Voltage(Max)(ns): 9.2; DatasheetVersion: SDFS046A; PackageReference: N0014A; Supplier 1: Digi-Key; Supplier Part Number 1: 296-1558-5-ND; Supplier 2: Farnell; Supplier Part Number 2: 1287535; Supplier 3: Newark; Supplier Part Number 3: 67K7345; Supplier 4: Mouser; Supplier Part Number 4: 595-SN74F74N; Input Type: TTL; Operating Temperature Range(C): 0 to 70; 3-State Output: No; Code_JEDEC: MS-001; ComponentLink1Description: Manufacturer URL; ComponentLink1URL: http://www.ti.com/; ComponentLink2Description: Datasheet; ComponentLink2URL: http://www.ti.com/lit/ds/symlink/sn74f74.pdf; ComponentLink3Description: Package Specification; ComponentLink3URL: http://www.ti.com/lit/ml/mpdi002c/mpdi002c.pdf
footprint N0014A (DIP, 14-Leads, Body 19.7x6.6mm, Pitch 2.54mm)
part A pins: 1 1~{CLR} (in), 2 1D (in), 3 1CLK (in), 4 1~{PRE} (in), 5 1Q (out), 6 1Q (out)
part B pins: 8 2Q (out), 9 2Q (out), 10 2~{PRE} (in), 11 2CLK (in), 12 2D (in), 13 2~{CLR} (in)
part C pins: 7 GND (power), 14 VCC (power)
part A text: PRE; CLR
part B text: PRE; CLR

## SN74F74NSR
designator U?
Dual Positive-Edge-Triggered D-Type Flip-Flops With Clear And Preset, NS0014A, LARGE T&R; Generic Part Number: SN74F74; Manufacturer: Texas Instruments; PartNumber: SN74F74NSR; VCC(Min)(V): 4.5; VCC(Max)(V): 5.5; Output Type: TTL; Output: 3S; ICC @ Nom Voltage(Max)(mA): 16; Bits(#): 2; F @ Nom Voltage(Max)(Mhz): 70; Rating: Catalog; Technology Family: F; Voltage(Nom)(V): 5; Schmitt Trigger: No; Output Drive (IOL/IOH)(Max)(mA): 20/-1; Output Logic: Inverted,Non-inverted; tpd @ Nom Voltage(Max)(ns): 9.2; DatasheetVersion: SDFS046A; PackageReference: NS0014A; Supplier 1: Digi-Key; Supplier Part Number 1: 296-31765-2-ND; Supplier 2: Digi-Key; Supplier Part Number 2: 296-31765-1-ND; Supplier 3: Digi-Key; Supplier Part Number 3: 296-31765-6-ND; Supplier 4: Mouser; Supplier Part Number 4: 595-SN74F74NSR; Input Type: TTL; Operating Temperature Range(C): 0 to 70; 3-State Output: No; ComponentLink1Description: Manufacturer URL; ComponentLink1URL: http://www.ti.com/; ComponentLink2Description: Datasheet; ComponentLink2URL: http://www.ti.com/lit/ds/symlink/sn74f74.pdf; ComponentLink3Description: Package Specification; ComponentLink3URL: http://www.ti.com/lit/ml/msop002a/msop002a.pdf
footprint NS0014A_N (SOIC,14-Leads,Body 10.5x5.6mm,Pitch 1.27mm,IPC Medium Density)
footprint NS0014A_M (SOIC,14-Leads,Body 10.5x5.6mm,Pitch 1.27mm,IPC Low Density)
footprint NS0014A_L (SOIC,14-Leads,Body 10.5x5.6mm,Pitch 0.4mm,IPC High Density)
part A pins: 1 1~{CLR} (in), 2 1D (in), 3 1CLK (in), 4 1~{PRE} (in), 5 1Q (out), 6 1Q (out)
part B pins: 8 2Q (out), 9 2Q (out), 10 2~{PRE} (in), 11 2CLK (in), 12 2D (in), 13 2~{CLR} (in)
part C pins: 7 GND (power), 14 VCC (power)
part A text: PRE; CLR
part B text: PRE; CLR

## SN74F174AD
designator U?
Hex D-Type Flip-Flop With Clear, D0016A, TUBE; Generic Part Number: SN74F174A; Manufacturer: Texas Instruments; PartNumber: SN74F174AD; VCC(Min)(V): 4.5; VCC(Max)(V): 5.5; Output Type: TTL; Output: 2S; ICC @ Nom Voltage(Max)(mA): 55; Bits(#): 6; F @ Nom Voltage(Max)(Mhz): 70; Rating: Catalog; Technology Family: F; Voltage(Nom)(V): 5; Schmitt Trigger: No; Output Drive (IOL/IOH)(Max)(mA): 20/-1; Output Logic: Non-inverted; tpd @ Nom Voltage(Max)(ns): 11; DatasheetVersion: SDFS029B; PackageReference: D0016A; Supplier 1: Digi-Key; Supplier Part Number 1: 296-33897-5-ND; Supplier 2: Farnell; Supplier Part Number 2: 1752929; Supplier 3: Mouser; Supplier Part Number 3: 595-SN74F174AD; Input Type: TTL; Operating Temperature Range(C): 0 to 70; 3-State Output: No; Code_JEDEC: MS-012 variation AC; ComponentLink1Description: Manufacturer URL; ComponentLink1URL: http://www.ti.com/; ComponentLink2Description: Datasheet; ComponentLink2URL: http://www.ti.com/lit/ds/symlink/sn74f174a.pdf; ComponentLink3Description: Package Specification; ComponentLink3URL: http://www.ti.com/lit/ml/mpds178g/mpds178g.pdf
footprint D0016A_N (SOIC, 16-Leads, Body 10x4mm, Pitch 1.27mm, IPC Medium Density)
footprint D0016A_M (SOIC, 16-Leads, Body 10x4mm, Pitch 1.27mm, IPC Low Density)
footprint D0016A_L (SOIC, 16-Leads, Body 10x4mm, Pitch 1.27mm, IPC High Density)
part A pins: 1 CLR (in), 2 1Q (out), 3 1D (in), 4 2D (in), 5 2Q (out), 6 3D (in), 7 3Q (out), 9 CLK (in), 10 4Q (out), 11 4D (in), 12 5Q (out), 13 5D (in), 14 6D (in), 15 6Q (out)
part B pins: 8 GND (power), 16 VCC (power)

## SN74F174ADR
designator U?
Hex D-Type Flip-Flop With Clear, D0016A, LARGE T&R; Generic Part Number: SN74F174A; Manufacturer: Texas Instruments; PartNumber: SN74F174ADR; VCC(Min)(V): 4.5; VCC(Max)(V): 5.5; Output Type: TTL; Output: 2S; ICC @ Nom Voltage(Max)(mA): 55; Bits(#): 6; F @ Nom Voltage(Max)(Mhz): 70; Rating: Catalog; Technology Family: F; Voltage(Nom)(V): 5; Schmitt Trigger: No; Output Drive (IOL/IOH)(Max)(mA): 20/-1; Output Logic: Non-inverted; tpd @ Nom Voltage(Max)(ns): 11; DatasheetVersion: SDFS029B; PackageReference: D0016A; Supplier 1: Digi-Key; Supplier Part Number 1: 296-14811-2-ND; Supplier 2: Digi-Key; Supplier Part Number 2: 296-14811-1-ND; Supplier 3: Digi-Key; Supplier Part Number 3: 296-14811-6-ND; Supplier 4: Mouser; Supplier Part Number 4: 595-SN74F174ADR; Input Type: TTL; Operating Temperature Range(C): 0 to 70; 3-State Output: No; Code_JEDEC: MS-012 variation AC; ComponentLink1Description: Manufacturer URL; ComponentLink1URL: http://www.ti.com/; ComponentLink2Description: Datasheet; ComponentLink2URL: http://www.ti.com/lit/ds/symlink/sn74f174a.pdf; ComponentLink3Description: Package Specification; ComponentLink3URL: http://www.ti.com/lit/ml/mpds178g/mpds178g.pdf
footprint D0016A_N (SOIC, 16-Leads, Body 10x4mm, Pitch 1.27mm, IPC Medium Density)
footprint D0016A_M (SOIC, 16-Leads, Body 10x4mm, Pitch 1.27mm, IPC Low Density)
footprint D0016A_L (SOIC, 16-Leads, Body 10x4mm, Pitch 1.27mm, IPC High Density)
part A pins: 1 CLR (in), 2 1Q (out), 3 1D (in), 4 2D (in), 5 2Q (out), 6 3D (in), 7 3Q (out), 9 CLK (in), 10 4Q (out), 11 4D (in), 12 5Q (out), 13 5D (in), 14 6D (in), 15 6Q (out)
part B pins: 8 GND (power), 16 VCC (power)

## SN74F174AN
designator U?
Hex D-Type Flip-Flop With Clear, N0016A, TUBE; Generic Part Number: SN74F174A; Manufacturer: Texas Instruments; PartNumber: SN74F174AN; VCC(Min)(V): 4.5; VCC(Max)(V): 5.5; Output Type: TTL; Output: 2S; ICC @ Nom Voltage(Max)(mA): 55; Bits(#): 6; F @ Nom Voltage(Max)(Mhz): 70; Rating: Catalog; Technology Family: F; Voltage(Nom)(V): 5; Schmitt Trigger: No; Output Drive (IOL/IOH)(Max)(mA): 20/-1; Output Logic: Non-inverted; tpd @ Nom Voltage(Max)(ns): 11; DatasheetVersion: SDFS029B; PackageReference: N0016A; Supplier 1: Digi-Key; Supplier Part Number 1: 296-33898-5-ND; Supplier 2: Farnell; Supplier Part Number 2: 1749844; Supplier 3: Mouser; Supplier Part Number 3: 595-SN74F174AN; Input Type: TTL; Operating Temperature Range(C): 0 to 70; 3-State Output: No; Code_JEDEC: MS-001; ComponentLink1Description: Manufacturer URL; ComponentLink1URL: http://www.ti.com/; ComponentLink2Description: Datasheet; ComponentLink2URL: http://www.ti.com/lit/ds/symlink/sn74f174a.pdf; ComponentLink3Description: Package Specification; ComponentLink3URL: http://www.ti.com/lit/ml/mpdi002c/mpdi002c.pdf
footprint N0016A (DIP, 16-Leads, Body 19.7x6.6mm, Pitch 2.54mm)
part A pins: 1 CLR (in), 2 1Q (out), 3 1D (in), 4 2D (in), 5 2Q (out), 6 3D (in), 7 3Q (out), 9 CLK (in), 10 4Q (out), 11 4D (in), 12 5Q (out), 13 5D (in), 14 6D (in), 15 6Q (out)
part B pins: 8 GND (power), 16 VCC (power)

## SN74F175D
designator U?
Quadruple D-Type Flip-Flops With Clear, D0016A, TUBE; Generic Part Number: SN74F175; Manufacturer: Texas Instruments; PartNumber: SN74F175D; VCC(Min)(V): 4.5; VCC(Max)(V): 5.5; Output Type: TTL; Output: 2S; ICC @ Nom Voltage(Max)(mA): 34; Bits(#): 4; F @ Nom Voltage(Max)(Mhz): 70; Rating: Catalog; Technology Family: F; Voltage(Nom)(V): 5; Schmitt Trigger: No; Output Drive (IOL/IOH)(Max)(mA): 20/-1; Output Logic: Inverted,Non-inverted; tpd @ Nom Voltage(Max)(ns): 9.5; DatasheetVersion: SDFS058B; PackageReference: D0016A; Supplier 1: Digi-Key; Supplier Part Number 1: 296-3561-5-ND; Supplier 2: Farnell; Supplier Part Number 2: 1749846; Supplier 3: Newark; Supplier Part Number 3: 52F2373; Supplier 4: Mouser; Supplier Part Number 4: 595-SN74F175D; Input Type: TTL; Operating Temperature Range(C): 0 to 70; 3-State Output: No; Code_JEDEC: MS-012 variation AC; ComponentLink1Description: Manufacturer URL; ComponentLink1URL: http://www.ti.com/; ComponentLink2Description: Datasheet; ComponentLink2URL: http://www.ti.com/lit/ds/symlink/sn74f175.pdf; ComponentLink3Description: Package Specification; ComponentLink3URL: http://www.ti.com/lit/ml/mpds178g/mpds178g.pdf
footprint D0016A_N (SOIC, 16-Leads, Body 10x4mm, Pitch 1.27mm, IPC Medium Density)
footprint D0016A_M (SOIC, 16-Leads, Body 10x4mm, Pitch 1.27mm, IPC Low Density)
footprint D0016A_L (SOIC, 16-Leads, Body 10x4mm, Pitch 1.27mm, IPC High Density)
part A pins: 1 CLR (in), 2 1Q (out), 3 1Q (out), 4 1D (in), 5 2D (in), 6 2Q (out), 7 2Q (out), 9 CLK (in), 10 3Q (out), 11 3Q (out), 12 3D (in), 13 4D (in), 14 4Q (out), 15 4Q (out)
part B pins: 8 GND (power), 16 VCC (power)

## SN74F175DR
designator U?
Quadruple D-Type Flip-Flops With Clear, D0016A, LARGE T&R; Generic Part Number: SN74F175; Manufacturer: Texas Instruments; PartNumber: SN74F175DR; VCC(Min)(V): 4.5; VCC(Max)(V): 5.5; Output Type: TTL; Output: 2S; ICC @ Nom Voltage(Max)(mA): 34; Bits(#): 4; F @ Nom Voltage(Max)(Mhz): 70; Rating: Catalog; Technology Family: F; Voltage(Nom)(V): 5; Schmitt Trigger: No; Output Drive (IOL/IOH)(Max)(mA): 20/-1; Output Logic: Inverted,Non-inverted; tpd @ Nom Voltage(Max)(ns): 9.5; DatasheetVersion: SDFS058B; PackageReference: D0016A; Supplier 1: Digi-Key; Supplier Part Number 1: 296-14812-2-ND; Supplier 2: Digi-Key; Supplier Part Number 2: 296-14812-1-ND; Supplier 3: Digi-Key; Supplier Part Number 3: 296-14812-6-ND; Supplier 4: Mouser; Supplier Part Number 4: 595-SN74F175DR; Input Type: TTL; Operating Temperature Range(C): 0 to 70; 3-State Output: No; Code_JEDEC: MS-012 variation AC; ComponentLink1Description: Manufacturer URL; ComponentLink1URL: http://www.ti.com/; ComponentLink2Description: Datasheet; ComponentLink2URL: http://www.ti.com/lit/ds/symlink/sn74f175.pdf; ComponentLink3Description: Package Specification; ComponentLink3URL: http://www.ti.com/lit/ml/mpds178g/mpds178g.pdf
footprint D0016A_N (SOIC, 16-Leads, Body 10x4mm, Pitch 1.27mm, IPC Medium Density)
footprint D0016A_M (SOIC, 16-Leads, Body 10x4mm, Pitch 1.27mm, IPC Low Density)
footprint D0016A_L (SOIC, 16-Leads, Body 10x4mm, Pitch 1.27mm, IPC High Density)
part A pins: 1 CLR (in), 2 1Q (out), 3 1Q (out), 4 1D (in), 5 2D (in), 6 2Q (out), 7 2Q (out), 9 CLK (in), 10 3Q (out), 11 3Q (out), 12 3D (in), 13 4D (in), 14 4Q (out), 15 4Q (out)
part B pins: 8 GND (power), 16 VCC (power)

## SN74F175N
designator U?
Quadruple D-Type Flip-Flops With Clear, N0016A, TUBE; Generic Part Number: SN74F175; Manufacturer: Texas Instruments; PartNumber: SN74F175N; VCC(Min)(V): 4.5; VCC(Max)(V): 5.5; Output Type: TTL; Output: 2S; ICC @ Nom Voltage(Max)(mA): 34; Bits(#): 4; F @ Nom Voltage(Max)(Mhz): 70; Rating: Catalog; Technology Family: F; Voltage(Nom)(V): 5; Schmitt Trigger: No; Output Drive (IOL/IOH)(Max)(mA): 20/-1; Output Logic: Inverted,Non-inverted; tpd @ Nom Voltage(Max)(ns): 9.5; DatasheetVersion: SDFS058B; PackageReference: N0016A; Supplier 1: Digi-Key; Supplier Part Number 1: 296-3562-5-ND; Supplier 2: Farnell; Supplier Part Number 2: 1749847; Supplier 3: Newark; Supplier Part Number 3: 50R6385; Supplier 4: Mouser; Supplier Part Number 4: 595-SN74F175N; Input Type: TTL; Operating Temperature Range(C): 0 to 70; 3-State Output: No; Code_JEDEC: MS-001; ComponentLink1Description: Manufacturer URL; ComponentLink1URL: http://www.ti.com/; ComponentLink2Description: Datasheet; ComponentLink2URL: http://www.ti.com/lit/ds/symlink/sn74f175.pdf; ComponentLink3Description: Package Specification; ComponentLink3URL: http://www.ti.com/lit/ml/mpdi002c/mpdi002c.pdf
footprint N0016A (DIP, 16-Leads, Body 19.7x6.6mm, Pitch 2.54mm)
part A pins: 1 CLR (in), 2 1Q (out), 3 1Q (out), 4 1D (in), 5 2D (in), 6 2Q (out), 7 2Q (out), 9 CLK (in), 10 3Q (out), 11 3Q (out), 12 3D (in), 13 4D (in), 14 4Q (out), 15 4Q (out)
part B pins: 8 GND (power), 16 VCC (power)

## SN74F175NSR
designator U?
Quadruple D-Type Flip-Flops With Clear, NS0016A, LARGE T&R; Generic Part Number: SN74F175; Manufacturer: Texas Instruments; PartNumber: SN74F175NSR; VCC(Min)(V): 4.5; VCC(Max)(V): 5.5; Output Type: TTL; Output: 2S; ICC @ Nom Voltage(Max)(mA): 34; Bits(#): 4; F @ Nom Voltage(Max)(Mhz): 70; Rating: Catalog; Technology Family: F; Voltage(Nom)(V): 5; Schmitt Trigger: No; Output Drive (IOL/IOH)(Max)(mA): 20/-1; Output Logic: Inverted,Non-inverted; tpd @ Nom Voltage(Max)(ns): 9.5; DatasheetVersion: SDFS058B; PackageReference: NS0016A; Supplier 1: Digi-Key; Supplier Part Number 1: 296-30599-2-ND; Supplier 2: Digi-Key; Supplier Part Number 2: 296-30599-1-ND; Supplier 3: Digi-Key; Supplier Part Number 3: 296-30599-6-ND; Supplier 4: Mouser; Supplier Part Number 4: 595-SN74F175NSR; Input Type: TTL; Operating Temperature Range(C): 0 to 70; 3-State Output: No; ComponentLink1Description: Manufacturer URL; ComponentLink1URL: http://www.ti.com/; ComponentLink2Description: Datasheet; ComponentLink2URL: http://www.ti.com/lit/ds/symlink/sn74f175.pdf; ComponentLink3Description: Package Specification; ComponentLink3URL: http://www.ti.com/lit/ml/msop002a/msop002a.pdf
footprint NS0016A_N (SOIC,16-Leads,Body 10.5x5.6mm,Pitch 1.27mm,IPC Medium Density)
footprint NS0016A_M (SOIC,16-Leads,Body 10.5x5.6mm,Pitch 1.27mm,IPC Low Density)
footprint NS0016A_L (SOIC,16-Leads,Body 10.5x5.6mm,Pitch 1.27mm,IPC High Density)
part A pins: 1 CLR (in), 2 1Q (out), 3 1Q (out), 4 1D (in), 5 2D (in), 6 2Q (out), 7 2Q (out), 9 CLK (in), 10 3Q (out), 11 3Q (out), 12 3D (in), 13 4D (in), 14 4Q (out), 15 4Q (out)
part B pins: 8 GND (power), 16 VCC (power)

## SN74F299DW
designator U?
Universal shift / storage registers, DW0020A, TUBE; Generic Part Number: SN74F299; Manufacturer: Texas Instruments; PartNumber: SN74F299DW; Technology Family: F; VCC(Min)(V): 4.5; VCC(Max)(V): 5.5; Voltage(Nom)(V): 5; F @ Nom Voltage(Max)(Mhz): 70; ICC @ Nom Voltage(Max)(mA): 95; tpd @ Nom Voltage(Max)(ns): 12; Output Drive (IOL/IOH)(Max)(mA): 24/-3; Input Type: TTL; 3-State Output: Yes; Rating: Catalog; Bits: 16; DatasheetVersion: SDFS071B; PackageReference: DW0020A; Output Type: TTL; Operating Temperature Range(C): 0 to 70; Code_JEDEC: MS-013; ComponentLink1Description: Manufacturer URL; ComponentLink1URL: http://www.ti.com/; ComponentLink2Description: Datasheet; ComponentLink2URL: http://www.ti.com/lit/ds/symlink/sn74f299.pdf; ComponentLink3Description: Package Specification; ComponentLink3URL: http://www.ti.com/lit/ml/mpds173a/mpds173a.pdf
footprint DW0020A_N (SOIC, 20-Leads, Body 13x7.6mm, Pitch 1.27mm, IPC Medium Density)
footprint DW0020A_M (SOIC, 20-Leads, Body 13x7.6mm, Pitch 1.27mm, IPC Low Density)
footprint DW0020A_L (SOIC, 20-Leads, Body 13x7.6mm, Pitch 1.27mm, IPC High Density)
pins: 1 S0 (in), 2 ~{OE1} (in), 3 ~{OE2} (in), 4 G/QG (io), 5 E/QE (io), 6 C/QC (io), 7 A/QA (io), 8 QA' (out), 9 ~{CLR} (in), 10 GND (power), 11 SR (in), 12 CLK (in), 13 B/QB (io), 14 D/QD (io), 15 F/QF (io), 16 H/QH (io), 17 QH' (out), 18 SL (in), 19 S1 (in), 20 VCC (power)

## SN74F299DWR
designator U?
Universal shift / storage registers, DW0020A, LARGE T&R; Generic Part Number: SN74F299; Manufacturer: Texas Instruments; PartNumber: SN74F299DWR; Technology Family: F; VCC(Min)(V): 4.5; VCC(Max)(V): 5.5; Voltage(Nom)(V): 5; F @ Nom Voltage(Max)(Mhz): 70; ICC @ Nom Voltage(Max)(mA): 95; tpd @ Nom Voltage(Max)(ns): 12; Output Drive (IOL/IOH)(Max)(mA): 24/-3; Input Type: TTL; 3-State Output: Yes; Rating: Catalog; DatasheetVersion: SDFS071B; PackageReference: DW0020A; Output Type: TTL; Operating Temperature Range(C): 0 to 70; Code_JEDEC: MS-013; ComponentLink1Description: Manufacturer URL; ComponentLink1URL: http://www.ti.com/; ComponentLink2Description: Datasheet; ComponentLink2URL: http://www.ti.com/lit/ds/symlink/sn74f299.pdf; ComponentLink3Description: Package Specification; ComponentLink3URL: http://www.ti.com/lit/ml/mpds173a/mpds173a.pdf
footprint DW0020A_N (SOIC, 20-Leads, Body 13x7.6mm, Pitch 1.27mm, IPC Medium Density)
footprint DW0020A_M (SOIC, 20-Leads, Body 13x7.6mm, Pitch 1.27mm, IPC Low Density)
footprint DW0020A_L (SOIC, 20-Leads, Body 13x7.6mm, Pitch 1.27mm, IPC High Density)
pins: 1 S0 (in), 2 ~{OE1} (in), 3 ~{OE2} (in), 4 G/QG (io), 5 E/QE (io), 6 C/QC (io), 7 A/QA (io), 8 QA' (out), 9 ~{CLR} (in), 10 GND (power), 11 SR (in), 12 CLK (in), 13 B/QB (io), 14 D/QD (io), 15 F/QF (io), 16 H/QH (io), 17 QH' (out), 18 SL (in), 19 S1 (in), 20 VCC (power)